# Altium schematic symbol library RES 1k 1_8W - 1%.Schlib: 1 symbol
Pins are listed as number, name and electrical type; pins without a type are passive.

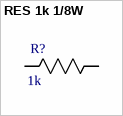
[diagram p0: symbol RES 1k 1/8W]

## RES 1k 1/8W
designator R?, comment 1k
RES SMD 1K OHM 1% 1/8W 0603; Power (Watts): 0.125W; Package: 0805; Value: 1k; Tolerance: 1%
footprint 0603 (Chip Resistor, 2-Leads, Body 1.60x0.80mm, IPC High Density)
pins: 1 R1, 2 R2